# Altium footprint library Footprint_lib.PcbLib: 29 footprints (part 2 of 2)
Each footprint in its own frame and in the unit in brackets; x right, y up, seen from the top. Pads: shape width x height; smd on the part's side, far side on the other; paste and mask are expansions set on the pad; w line width, h text height; cw(c..) or ccw(c..) is an arc to the next point about the centre after c.
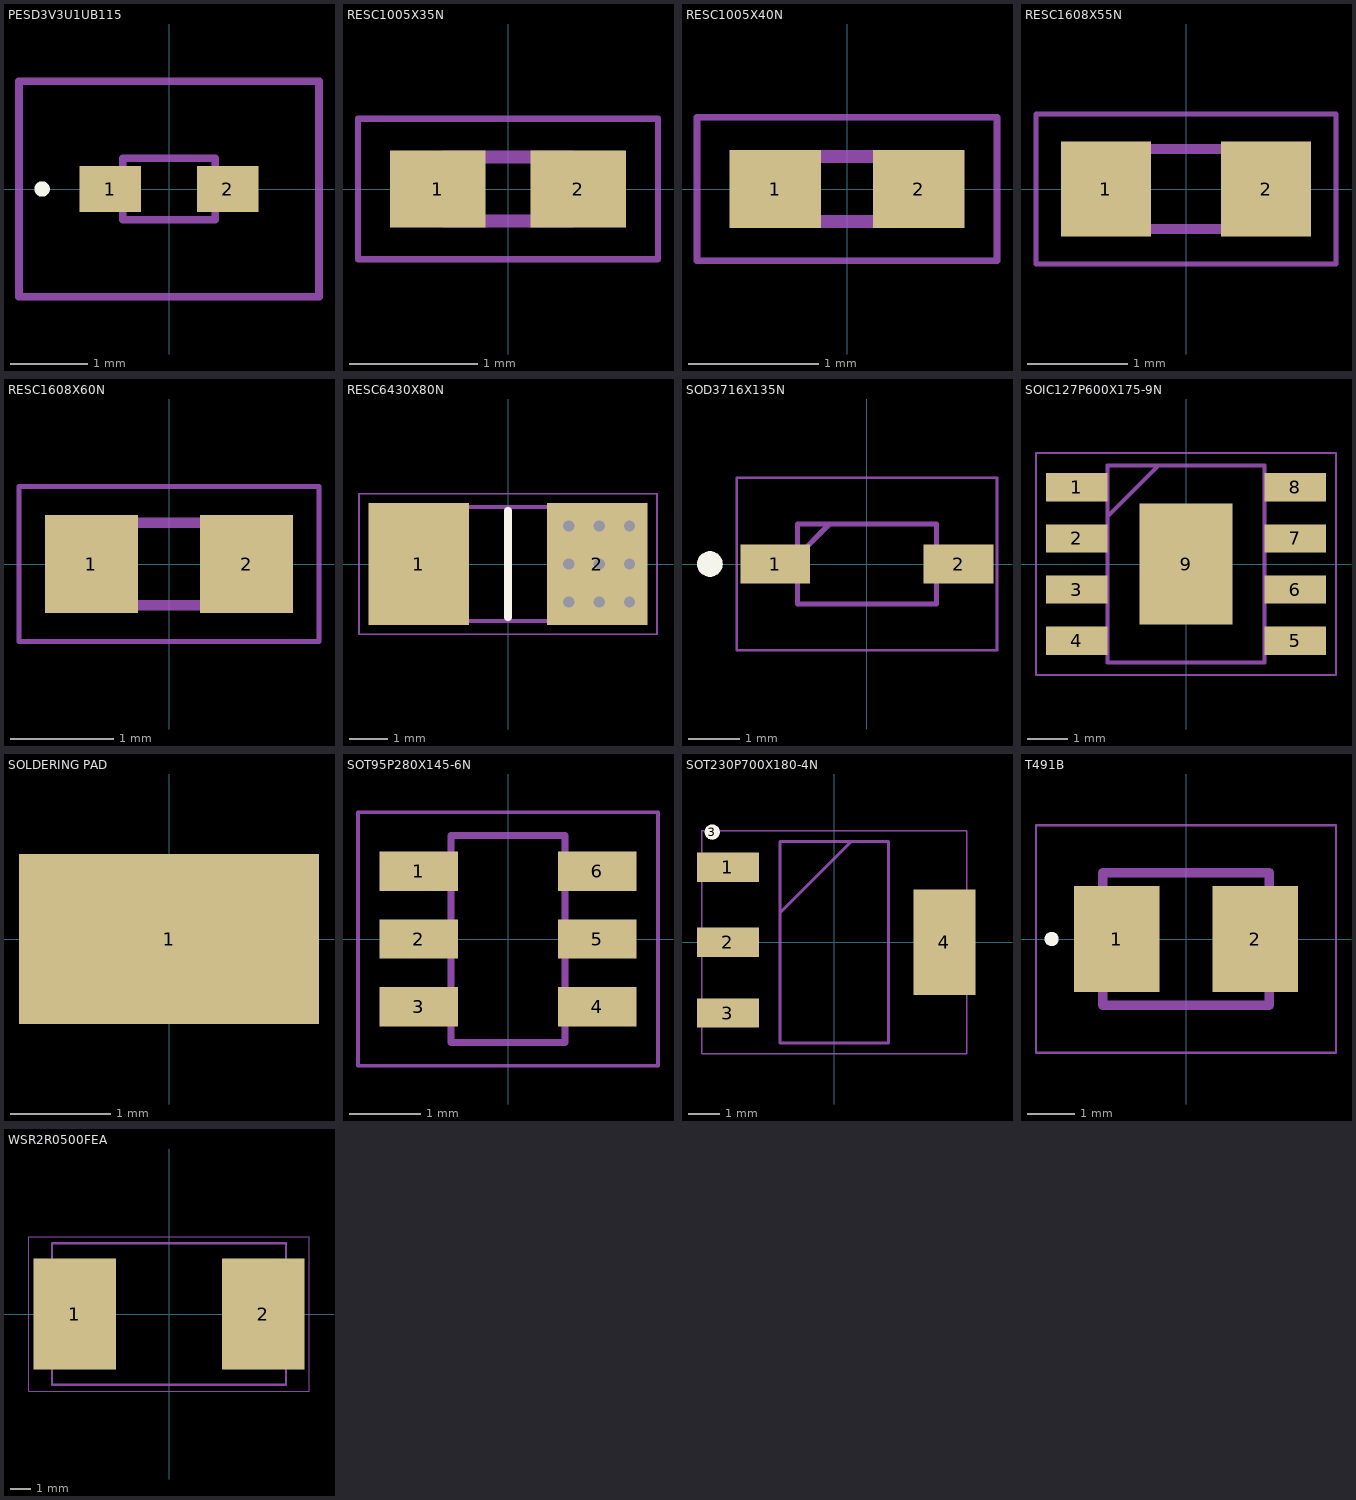
[diagram p1: the footprints below, top view; thin cyan lines are the x and y axes]

## PESD3V3U1UB115 [mm]
pads (2):
  rect 0.8x0.6 smd: 1(-0.762,0) 2(0.762,0)
Top Overlay:
  lines w0.1: -1.7,0 cw(c-1.65,0) -1.6,0 cw(c-1.65,0) -1.7,0
Top 3D Body:
  lines w0.1: -0.6,-0.4 -0.6,0.4 0.6,0.4 0.6,-0.4 -0.6,-0.4
Top Courtyard:
  lines w0.1: -1.95,-1.4 -1.95,1.4 1.95,1.4 1.95,-1.4 -1.95,-1.4
3D body "PESD3V3U1UB,115.stp": height 0.61, standoff 0, extent -0.801,-0.415 0.799,0.415

## RESC1005X35N [mm]
pads (2):
  rect 0.75x0.6 smd: 1(-0.55,0) 2(0.55,0)
Top 3D Body:
  lines w0.1: -0.5,-0.25 0.5,-0.25 0.5,0.25 -0.5,0.25 -0.5,-0.25
Top Courtyard:
  lines w0.05: -1.175,-0.55 1.175,-0.55 1.175,0.55 -1.175,0.55 -1.175,-0.55
3D body "CRCW040210K0FKEDC.stp": height 0.35, standoff 0, extent -0.5,-0.25 0.5,0.25

## RESC1005X40N [mm]
pads (2):
  rect 0.7x0.6 smd: 1(-0.55,0) 2(0.55,0)
Top 3D Body:
  lines w0.1: -0.5,-0.25 -0.5,0.25 0.5,0.25 0.5,-0.25 -0.5,-0.25
Top Courtyard:
  lines w0.05: -1.15,-0.55 -1.15,0.55 1.15,0.55 1.15,-0.55 -1.15,-0.55
3D body "CRCW04023K00FKEDHP.stp": height 0.4, standoff 0, extent -0.5,-0.25 0.5,0.25

## RESC1608X55N [mm]
pads (2):
  rect 0.9x0.95 smd: 1(-0.8,0) 2(0.8,0)
Top 3D Body:
  lines w0.1: -0.8,-0.4 -0.8,0.4 0.8,0.4 0.8,-0.4 -0.8,-0.4
Top Courtyard:
  lines w0.05: -1.5,-0.75 -1.5,0.75 1.5,0.75 1.5,-0.75 -1.5,-0.75
3D body "KTR03EZPF10R0.stp": height 0.55, standoff 0, extent -0.8,-0.4 0.8,0.4

## RESC1608X60N [mm]
pads (2):
  rect 0.9x0.95 smd: 1(-0.75,0) 2(0.75,0)
Top 3D Body:
  lines w0.1: -0.775,-0.4 -0.775,0.4 0.775,0.4 0.775,-0.4 -0.775,-0.4
Top Courtyard:
  lines w0.05: -1.45,-0.75 -1.45,0.75 1.45,0.75 1.45,-0.75 -1.45,-0.75
3D body "CRT0603-FZ-1002ELF.stp": height 0.6, standoff 0, extent -0.775,-0.4 0.775,0.4

## RESC6430X80N [mm]
pads (2):
  rect 2.65x3.2 smd: 1(-2.35,0) 2(2.35,0)
via 1.6,1 diameter 0.5 hole 0.3
via 2.4,1 diameter 0.5 hole 0.3
via 1.6,0 diameter 0.5 hole 0.3
via 2.4,0 diameter 0.5 hole 0.3
via 3.2,0 diameter 0.5 hole 0.3
via 3.2,1 diameter 0.5 hole 0.3
via 1.6,-1 diameter 0.5 hole 0.3
via 2.4,-1 diameter 0.5 hole 0.3
via 3.2,-1 diameter 0.5 hole 0.3
Top Overlay:
  lines w0.2: 0,-1.4 0,1.4
Top 3D Body:
  lines w0.1: -3.175,-1.5 3.175,-1.5 3.175,1.5 -3.175,1.5 -3.175,-1.5
Top Courtyard:
  lines w0.05: -3.925,-1.85 3.925,-1.85 3.925,1.85 -3.925,1.85 -3.925,-1.85
3D body "TLR3A30DR001FTDG.stp": height 0.8, standoff 0, extent -3.175,-1.5 3.175,1.5

## SOD3716X135N [mm]
pads (3):
  rect 1.35x0.75 smd: 1(-1.778,0) 2(1.778,0)
  round 0.5 on Top Overlay: ""(-3.048,0)
Top 3D Body:
  lines w0.1: -1.35,0.15 -0.725,0.775 ; -1.35,-0.775 -1.35,0.775 1.35,0.775 1.35,-0.775 -1.35,-0.775
Top Courtyard:
  lines w0.05: -2.525,-1.675 -2.525,1.675 2.525,1.675 2.525,-1.675 -2.525,-1.675
3D body "1N4148W-G3-08.stp": height 1.35, standoff 0, extent -1.85,-0.775 1.85,0.775

## SOIC127P600X175-9N [mm]
pads (9):
  rect 1.522x0.7 smd: 1(-2.714,1.905) 2(-2.714,0.635) 3(-2.714,-0.635) 4(-2.714,-1.905) 5(2.714,-1.905) 6(2.714,-0.635) 7(2.714,0.635) 8(2.714,1.905)
  rect 2.3x3 smd: 9(0,0)
Top 3D Body:
  lines w0.1: -1.952,1.181 -0.682,2.451 ; -1.952,-2.451 -1.952,2.451 1.952,2.451 1.952,-2.451 -1.952,-2.451
Top Courtyard:
  lines w0.05: -3.725,-2.752 -3.725,2.752 3.725,2.752 3.725,-2.752 -3.725,-2.752
3D body "RT8251GSP.stp": height 1.75, standoff 0, extent -2.998,-2.451 2.998,2.451

## SOLDERING PAD [mm] "self-made soldering pad footprint. This is my alternative to goldpin connectors."
pads (1):
  rect 3x1.7 smd: 1(0,0)

## SOT95P280X145-6N [mm]
pads (6):
  rect 1.1x0.55 smd: 1(-1.25,0.95) 2(-1.25,0) 3(-1.25,-0.95) 4(1.25,-0.95) 5(1.25,0) 6(1.25,0.95)
Top 3D Body:
  lines w0.1: -0.8,-1.45 -0.8,1.45 0.8,1.45 0.8,-1.45 -0.8,-1.45
Top Courtyard:
  lines w0.05: -2.1,-1.775 -2.1,1.775 2.1,1.775 2.1,-1.775 -2.1,-1.775
3D body "LMR50410Y3FQDBVRQ1.stp": height 1.2, standoff 0, extent -1.4,-1.45 1.4,1.45

## SOT230P700X180-4N [mm]
pads (5):
  rect 2x0.95 smd: 1(-3.429,2.413) 2(-3.429,0) 3(-3.429,-2.286)
  round 0.5 on Top Overlay: 3(-3.937,3.556)
  rect 2x3.4 smd: 4(3.556,0)
Top 3D Body:
  lines w0.1: -1.75,0.95 0.55,3.25 ; -1.75,-3.25 1.75,-3.25 1.75,3.25 -1.75,3.25 -1.75,-3.25
Top Courtyard:
  lines w0.05: -4.275,-3.6 4.275,-3.6 4.275,3.6 -4.275,3.6 -4.275,-3.6
3D body "LM1117IMP-3.3_NOPB.stp": height 1.68, standoff 0, extent -3.5,-3.25 3.5,3.25

## T491B [mm]
pads (2):
  rect 1.8x2.23 smd: 1(-1.46,0) 2(1.46,0)
Top Overlay:
  circle w0.2: c-2.831,0 r0.05
Top 3D Body:
  lines w0.2: -1.75,-1.4 1.75,-1.4 1.75,1.4 -1.75,1.4 -1.75,-1.4
Top Courtyard:
  lines w0.05: -3.16,-2.4 3.16,-2.4 3.16,2.4 -3.16,2.4 -3.16,-2.4
3D body "T491B226K006AT.stp": height 2.1, standoff 0, extent -1.85,-1.5 1.85,1.5

## WSR2R0500FEA [mm]
pads (2):
  rect 4.05x5.5 smd: 1(-4.65,0) 2(4.65,0)
Top 3D Body:
  lines w0.1: -5.78,-3.49 -5.78,3.49 5.78,3.49 5.78,-3.49 -5.78,-3.49
Top Courtyard:
  lines w0.05: -6.925,-3.804 -6.925,3.804 6.925,3.804 6.925,-3.804 -6.925,-3.804
3D body "WSR2R0500FEA.stp": height 2.41, standoff 0, extent -5.78,-3.49 5.78,3.49